# Altium integrated library PowerBoardV2_Logic.IntLib: 38 symbols
Pins are listed as number, name and electrical type; pins without a type are passive.

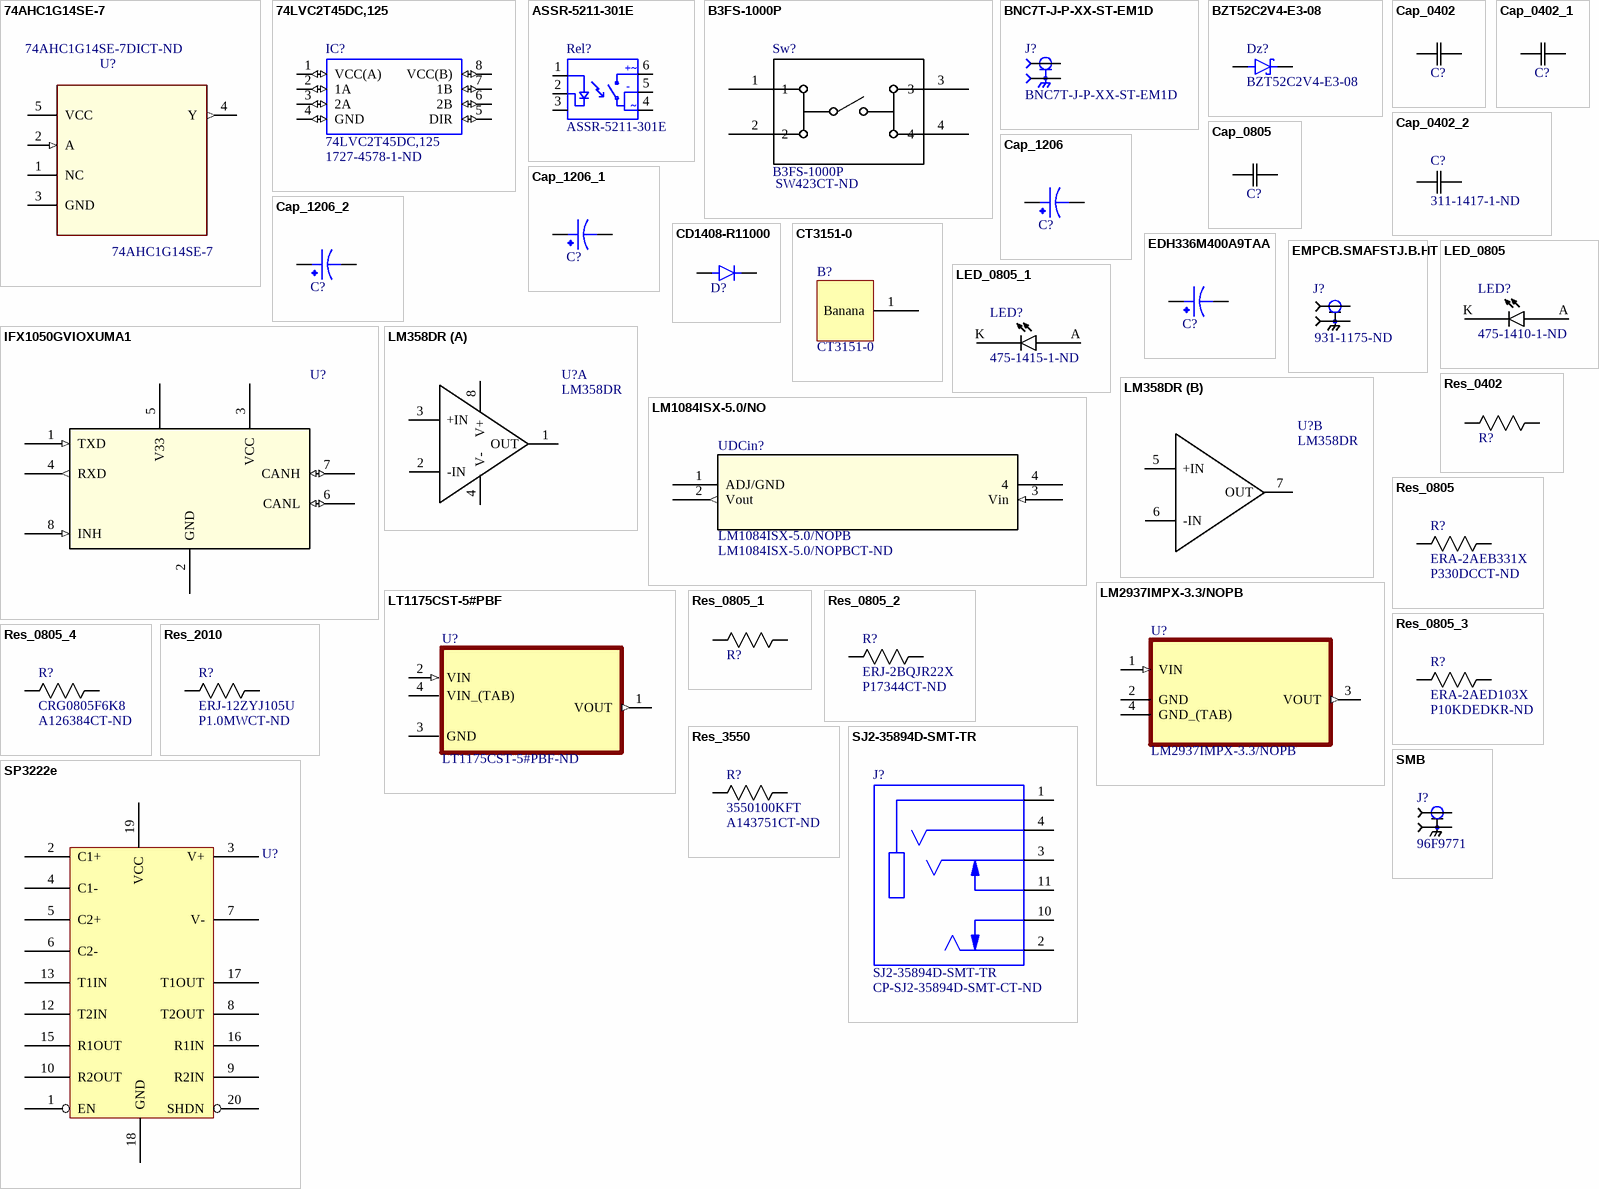
[diagram p0: symbols 74AHC1G14SE-7 to SP3222e]

## 74AHC1G14SE-7
designator U?  Supplier Part Number 1: 74AHC1G14SE-7DICT-ND
Inverter IC 1 Channel Schmitt Trigger SOT-353; MF: Diodes Inc.; Package: SOT-353 Diodes Inc.; MP: 74AHC1G14SE-7; Digi-Key_Part_Number: 74AHC1G14SE-7DICT-ND; Digi-Key_Purchase_URL: https://www.digikey.ca/product-detail/en/diodes-incorporated/74AHC1G14SE-7/74AHC1G14SE-7DICT-ND/2639309?utm_source=snapeda&utm_medium=aggregator&utm_campaign=symbol; SnapEDA_Link: https://www.snapeda.com/parts/74AHC1G14SE-7/Diodes%20Inc./view-part/418511/?ref=snap; Value: *; Supplier 1: Digi-Key
footprint *SOT65P210X110-5N
pins: 1 NC, 2 A (in), 3 GND, 4 Y (out), 5 VCC (power)

## 74LVC2T45DC,125
designator IC?  Supplier Part Number 1: 1727-4578-1-ND
Voltage Level Translator Bidirectional 1 Circuit 2 Channel 420Mbps 8-VSSOP; MF: Nexperia USA; MP: 74LVC2T45DC,125; Value: *; Availability: Good; Package: VSSOP8-8 Nexperia USA Inc.; Check_prices: https://www.snapeda.com/parts/74LVC2T45DC,125/Nexperia/view-part/287401/?ref=eda; Price: None; SnapEDA_Link: https://www.snapeda.com/parts/74LVC2T45DC,125/Nexperia/view-part/287401/?ref=snap; Purchase-URL: https://pricing.snapeda.com/search/part/74LVC2T45DC,125/?ref=eda; Supplier 1: Digi-Key
footprint SOP50P310X100-8N
pins: 1 VCC(A) (io), 2 1A (io), 3 2A (io), 4 GND (io), 5 DIR (io), 6 2B (io), 7 1B (io), 8 VCC(B) (io)

## ASSR-5211-301E
designator Rel?
Solid State SPST-NO (1 Form A) 6-SMD (0.300", 7.62mm) / SSR RELAY SPST-NO 200MA 0-600V
footprint 6-DIPGullWing
pins: 1, 2, 3, 4, 5, 6
text: +~; -; ~

## B3FS-1000P
designator Sw?  Supplier Part Number 1: SW423CT-ND
Tactile Switch SPST-NO Top Actuated Surface Mount; Supplier 1: Digi-Key
footprint B3FS-1000P
pins: 1, 2, 3, 4

## BNC7T-J-P-XX-ST-EM1D
designator J?
BNC Connector Jack, Female Socket 75Ohm Board Edge, End Launch; Panel Mount Solder; MP: BNC7T-J-P-GN-ST-EM1D; MF: Samtec Inc.; Package: None; DigiKey-Purchase-URL: https://snapeda.com/shop?store=DigiKey&id=3266999; Price: None; SnapEDA_Link: https://www.snapeda.com/parts/BNC7T-J-P-GN-ST-EM1D/Samtec%20Inc./view-part/3266999/?ref=snap; Toby_UK-Purchase-URL: https://snapeda.com/shop?store=Toby+UK&id=3266999; Value: *; Availability: Unavailable
footprint SAMTEC_BNC7T-J-P-XX-ST-EM1D
pins: 1, S1 2, S2 2, S3 2, S4 2

## BZT52C2V4-E3-08
designator Dz?
Zener Diode 2.4V 410mW ±5% Surface Mount SOD-123; Supplier 1: Digi-Key; Supplier Part Number 1: 112-BZT52C2V4-E3-08CT-ND
footprint SOD-123
pins: 1 K, 2 A

## Cap_0402
designator C?, comment GRM155R71C103MA01D  (value not drawn)
Supplier 1: Digi-Key; Supplier Part Number 1: 490-16353-1-ND
footprint C0402
pins: 1, 2

## Cap_0402_1
designator C?, comment GRM155R71H102KA01J  (value not drawn)
Supplier 1: Digi-Key; Supplier Part Number 1: 490-6350-1-ND
footprint C0402
pins: 1, 2

## Cap_0402_2
designator C?, comment Supplier Part Number 1: 311-1417-1-ND  (hidden comment: CC0402JRNPO9BN200)
Supplier 1: Digi-Key
footprint C0402
pins: 1, 2

## Cap_0805
designator C?, comment C0805C104Z5VACTU  (value not drawn)
Supplier 1: Digi-Key; Supplier Part Number 1: 399-1177-1-ND
footprint C0805
pins: 1, 2

## Cap_1206
designator C?, comment T491A104K050AT  (value not drawn)
Tantalium; Supplier 1: Digi-Key; Supplier Part Number 1: 399-8263-1-ND
footprint C1206
pins: 1 POS, 2 NEG

## Cap_1206_1
designator C?, comment T55A107M6R3C0200  (value not drawn)
Tantalium; Supplier 1: Mouser; Supplier Part Number 1: 74-T55A107M6R3C0200
footprint C1206
pins: 1 POS, 2 NEG

## Cap_1206_2
designator C?, comment F931D106MAA  (value not drawn)
Tantalium; Supplier 1: Digi-Key; Supplier Part Number 1: 478-8275-1-ND
footprint C1206
pins: 1 POS, 2 NEG

## CD1408-R11000
designator D?  (value not drawn)
Diode Standard 1000V 1A Surface Mount 1408; Supplier 1: Digi-Key; Supplier Part Number 1: CD1408-R11000CT-ND
footprint CD1408
pins: 1, 2

## CT3151-0
designator B?
footprint CT3151
footprint CT3151L
pins: 1 Banana

## EDH336M400A9TAA
designator C?  (value not drawn)
33ÂµF 400V Aluminum Electrolytic Capacitors Radial, Can - SMD 2000 Hrs @ 105Â°C; MF: KEMET; Package: Radial KEMET; Value: *; Price: None; MP: EDH336M400A9TAA; Availability: Unavailable; SnapEDA_Link: https://www.snapeda.com/parts/EDH336M400A9TAA/KEMET/view-part/2337124/?ref=snap
footprint CAPAE1700X1700N
pins: 1 POS, 2 NEG

## EMPCB.SMAFSTJ.B.HT
designator J?  Supplier Part Number 1: 931-1175-ND  (hidden comment: EMPCB.SMAFSTJ.B.HT)
SMA Connector Jack, Female Socket 50Ohm Board Edge, End Launch Solder; MF: Taoglas Limited; Package: None; Digi-Key_Part_Number: 931-1175-ND; Digi-Key_Purchase_URL: https://www.digikey.com/product-detail/en/taoglas-limited/EMPCB.SMAFSTJ.B.HT/931-1175-ND/3522337?utm_source=snapeda&utm_medium=aggregator&utm_campaign=symbol; MP: EMPCB.SMAFSTJ.B.HT; SnapEDA_Link: https://www.snapeda.com/parts/EMPCB.SMAFSTJ.B.HT/Taoglas%20Limited/view-part/231078/?ref=snap; Value: *; Supplier 1: Digi-Key
footprint *TAOGLAS_EMPCB.SMAFSTJ.B.HT_EMPCB.SMAFSTJ.B.HT(Primary)
pins: 1, SH1 2, SH2 2, SH3 2, SH4 2

## IFX1050GVIOXUMA1
designator U?  (value not drawn)
No Description Available; Vendor: Infineon; Built_By: EMA_UL_Team; SourceLibrary: Infineon_2014-07-30; Manufacturer_Part_Number: IFX1050G; Copyright: Copyright (C) 2018 Accelerated Designs. All rights reserved; RefDes: RefDes; Type: DEV; Supplier 1: Digi-Key; Supplier Part Number 1: IFX1050GVIOXUMA1CT-ND
footprint SOIC127P600X175-8N
pins: 1 TXD (in), 2 GND (power), 3 VCC (power), 4 RXD (out), 5 V33 (power), 6 CANL (io), 7 CANH (io), 8 INH (in)

## LED_0805
designator LED?, comment Supplier Part Number 1: 475-1410-1-ND  (hidden comment: LG R971-KN-1)
LED: / LH R974-LP-1 / LG R971-KN-1 / LY R976-PS-36; Supplier 1: Digi-Key
footprint LEDG0805
footprint LEDr0805
footprint LEDY0805
pins: A, K k

## LED_0805_1
designator LED?, comment Supplier Part Number 1: 475-1415-1-ND  (hidden comment: LH R974-LP-1)
LED: / LH R974-LP-1 / LG R971-KN-1 / LY R976-PS-36; Supplier 1: Digi-Key
footprint LEDG0805
footprint LEDr0805
footprint LEDY0805
pins: A, K k

## LM358DR
designator U?
footprint SOIC127P600X175-8N
part A pins: 1 OUT, 2 -IN, 3 +IN, 4 V- (power), 8 V+ (power)
part B pins: 5 +IN, 6 -IN, 7 OUT

## LM1084ISX-5.0/NO
designator UDCin?, comment LM1084ISX-5.0/NOPB  Supplier Part Number 1: LM1084ISX-5.0/NOPBCT-ND
No Description Available; Vendor: Texas Instruments; Built_By: EMA_UL_Team; Manufacturer_Part_Number: LM1084ISX-5.0/NOPB; Copyright: Copyright (C) 2018 Accelerated Designs. All rights reserved; RefDes: RefDes; Type: DEV; Value: Value; Supplier 1: Digi-Key
footprint TS3B
pins: 1 ADJ/GND, 2 Vout (out), 3 Vin (in), 4

## LM2937IMPX-3.3/NOPB
designator U?
Linear Voltage Regulator IC 1 Output 400mA SOT-223-4; MF: Texas Instruments; SnapEDA_Link: https://www.snapeda.com/parts/LM2937IMPX-3.3/NOPB/Texas%20Instruments/view-part/587827/?ref=snap; Package: SOT-223 Texas Instruments; MP: LM2937IMPX-3.3/NOPB; Value: *; Availability: Unavailable; Price: None
footprint SOT230P700X180-4N
pins: 1 VIN (in), 2 GND, 3 VOUT (out), 4 GND_(TAB)

## LT1175CST-5#PBF
designator U?  Supplier Part Number 1: LT1175CST-5#PBF-ND  (hidden comment: LT1175CST-5#PBF)
IC REG LINEAR -5V 500MA SOT223-3; MP: LM2937IMPX-3.3/NOPB; MF: Texas Instruments; SnapEDA_Link: https://www.snapeda.com/parts/LM2937IMPX-3.3/NOPB/Texas%20Instruments/view-part/587827/?ref=snap; Package: SOT-223 Texas Instruments; Value: *; Availability: Unavailable; Price: None; Supplier 1: Digi-Key
footprint SOT230P700X180-4N
pins: 1 VOUT (out), 2 VIN (in), 3 GND, 4 VIN_(TAB)

## Res_0402
designator R?, comment RK73B1ETTP103J  (value not drawn)
Supplier 1: Digi-Key; Supplier Part Number 1: 2019-RK73B1ETTP103JCT-ND
footprint R0402
pins: 1, 2

## Res_0805
designator R?, comment ERA-2AEB331X  Supplier Part Number 1: P330DCCT-ND
Supplier 1: Digi-Key
footprint 0805
footprint 0402 (Chip Capacitor, Body 1.0x0.5mm, IPC High Density)
pins: 1, 2

## Res_0805_1
designator R?, comment CRGCQ0805F120R  (value not drawn)
Supplier 1: Digi-Key; Supplier Part Number 1: A129738CT-ND
footprint 0805
pins: 1, 2

## Res_0805_2
designator R?, comment ERJ-2BQJR22X  Supplier Part Number 1: P17344CT-ND
Supplier 1: Digi-Key
footprint 0402-A (Chip Inductor, Body 1.0x0.5mm, IPC High Density)
pins: 1, 2

## Res_0805_3
designator R?, comment ERA-2AED103X  Supplier Part Number 1: P10KDEDKR-ND
Supplier 1: Digi-Key
footprint R0402
pins: 1, 2

## Res_0805_4
designator R?, comment CRG0805F6K8  Supplier Part Number 1: A126384CT-ND
Supplier 1: Digi-Key
footprint 0805
pins: 1, 2

## Res_2010
designator R?, comment ERJ-12ZYJ105U  Supplier Part Number 1: P1.0MWCT-ND
Chip Resistor 2010 (5025 Metric) Automotive AEC-Q200 Thick Film; Supplier 1: Digi-Key
footprint R2010
pins: 1, 2

## Res_3550
designator R?, comment 3550100KFT  Supplier Part Number 1: A143751CT-ND
100K 5W; Supplier 1: Digi-Key
footprint 355047KJT
pins: 1, 2

## SJ2-35894D-SMT-TR
designator J?  Supplier Part Number 1: CP-SJ2-35894D-SMT-CT-ND
3.5 mm, Stereo, Right Angle, Surface Mount _SMT_, Audio Jack Connector; MF: CUI Devices; Value: *; SnapEDA_Link: https://www.snapeda.com/parts/SJ2-35894D-SMT-TR/CUI%20Devices/view-part/1317816/?ref=snap; Package: None; MP: SJ2-35894D-SMT-TR; CUI_purchase_URL: https://www.cuidevices.com/product/interconnect/connectors/audio-connectors/jacks/sj2-3589x-smt-series?utm_source=snapeda.com&utm_medium=referral&utm_campaign=snapedaBOM; Availability: Unavailable; Price: None; Supplier 1: Digi-Key
footprint CUI_SJ2-35894D-SMT-TR
pins: 1 SLEEVE, 2 TIP, 3 RING1, 4 RING2, 10 TIP_SWITCH, 11 RING1_SWITCH

## SMB
designator J?, comment Supplier Part Number 1: 96F9771  (hidden comment: 131-3701-801)
SMB Connector Jack, Male Pin 50Ohm Board Edge, End Launch Solder; Supplier 1: Newark
footprint SMBboardEdge
pins: 1, SH1 2, SH2 2, SH3 2, SH4 2

## SP3222e
designator U?, comment SP3222ECY-L/TR  (value not drawn)
The SP3222E and SP3232E series are RS-232 transceiver solutions / intended for portable or hand-held applications such as notebook / or palmtop computers.; Supplier 1: Digi-Key; Supplier Part Number 1: 1016-1792-2-ND
footprint 20-TSSOP
pins: 1 EN, 2 C1+, 3 V+, 4 C1-, 5 C2+, 6 C2-, 7 V-, 8 T2OUT, 9 R2IN, 10 R2OUT, 12 T2IN, 13 T1IN, 15 R1OUT, 16 R1IN, 17 T1OUT, 18 GND, 19 VCC, 20 SHDN

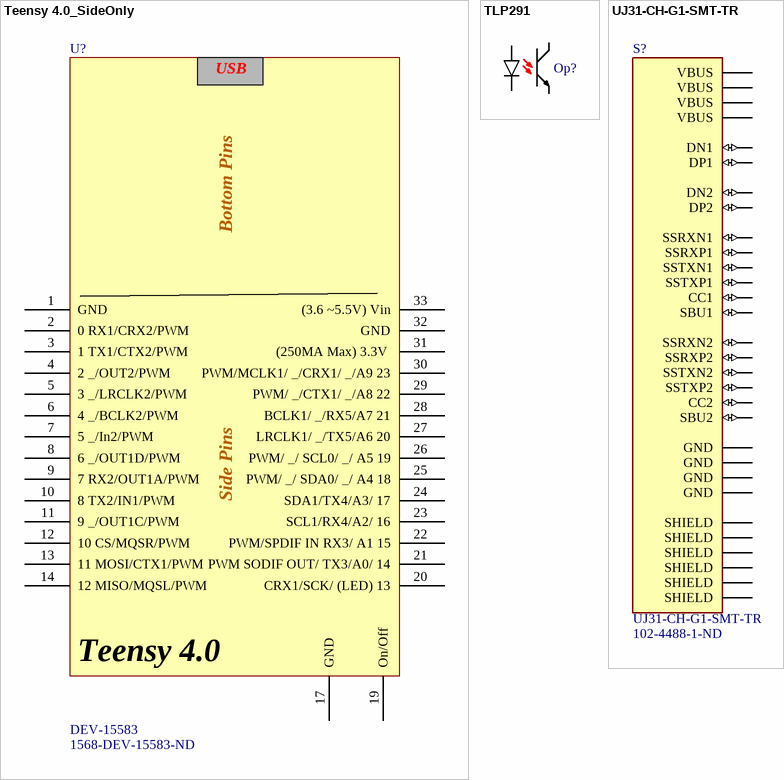
[diagram p1: symbols Teensy 4.0_SideOnly to UJ31-CH-G1-SMT-TR]

## Teensy 4.0_SideOnly
designator U?, comment DEV-15583  Supplier Part Number 1: 1568-DEV-15583-ND
Supplier 1: Digi-Key
footprint Teensy 4.0sideOnly
pins: 1 GND, 2 0 RX1/CRX2/PWM, 3 1 TX1/CTX2/PWM, 4 2 _/OUT2/PWM, 5 3 _/LRCLK2/PWM, 6 4 _/BCLK2/PWM, 7 5 _/In2/PWM, 8 6 _/OUT1D/PWM, 9 7 RX2/OUT1A/PWM, 10 8 TX2/IN1/PWM, 11 9 _/OUT1C/PWM, 12 10 CS/MQSR/PWM, 13 11 MOSI/CTX1/PWM, 14 12 MISO/MQSL/PWM, 17 GND, 19 On/Off, 20 CRX1/SCK/ (LED) 13, 21 PWM SODIF OUT/ TX3/A0/ 14, 22 PWM/SPDIF IN RX3/ A1 15, 23 SCL1/RX4/A2/ 16, 24 SDA1/TX4/A3/ 17, 25 PWM/ _/ SDA0/ _/ A4 18, 26 PWM/ _/ SCL0/ _/ A5 19, 27 LRCLK1/ _/TX5/A6 20, 28 BCLK1/ _/RX5/A7 21, 29 PWM/ _/CTX1/ _/A8 22, 30 PWM/MCLK1/ _/CRX1/ _/A9 23, 31 (250MA Max) 3.3V , 32 GND, 33 (3.6 ~5.5V) Vin
text: USB; Bottom Pins; Side Pins; Teensy 4.0

## TLP291
designator Op?, comment TLP291(GB,SE  (value not drawn)
Supplier 1: Digi-Key; Supplier Part Number 1: TLP291(GBSE-ND
footprint 4-SOIC
pins: 1, 2, 3, 4

## UJ31-CH-G1-SMT-TR
designator S?  Supplier Part Number 1: 102-4488-1-ND
Type C, USB 3.1 Gen 2, 5 A, Right Angle, Surface Mount _SMT_ , USB Receptacle; MF: CUI Devices; CUI_purchase_URL: https://www.cuidevices.com/product/interconnect/connectors/usb-connectors/uj31-ch-g1-smt-tr?utm_source=snapeda.com&utm_medium=referral&utm_campaign=snapedaBOM; Price: None; SnapEDA_Link: https://www.snapeda.com/parts/UJ31-CH-G1-SMT-TR/CUI%20Devices/view-part/2754415/?ref=snap; Package: None; Availability: Unavailable; Value: *; MP: UJ31-CH-G1-SMT-TR; Supplier 1: Digi-Key
footprint CUI_UJ31-CH-G1-SMT-TR
pins: A1 GND (power), A2 SSTXP1 (io), A3 SSTXN1 (io), A4 VBUS (power), A5 CC1 (io), A6 DP1 (io), A7 DN1 (io), A8 SBU1 (io), A9 VBUS (power), A10 SSRXN2 (io), A11 SSRXP2 (io), A12 GND (power), B1 GND (power), B2 SSTXP2 (io), B3 SSTXN2 (io), B4 VBUS (power), B5 CC2 (io), B6 DP2 (io), B7 DN2 (io), B8 SBU2 (io), B9 VBUS (power), B10 SSRXN1 (io), B11 SSRXP1 (io), B12 GND (power), SH1 SHIELD (power), SH2 SHIELD (power), SH3 SHIELD (power), SH4 SHIELD (power), SH5 SHIELD (power), SH6 SHIELD (power)